# Altium integrated library TI Audio CODEC.IntLib: 199 symbols (part 16 of 17)
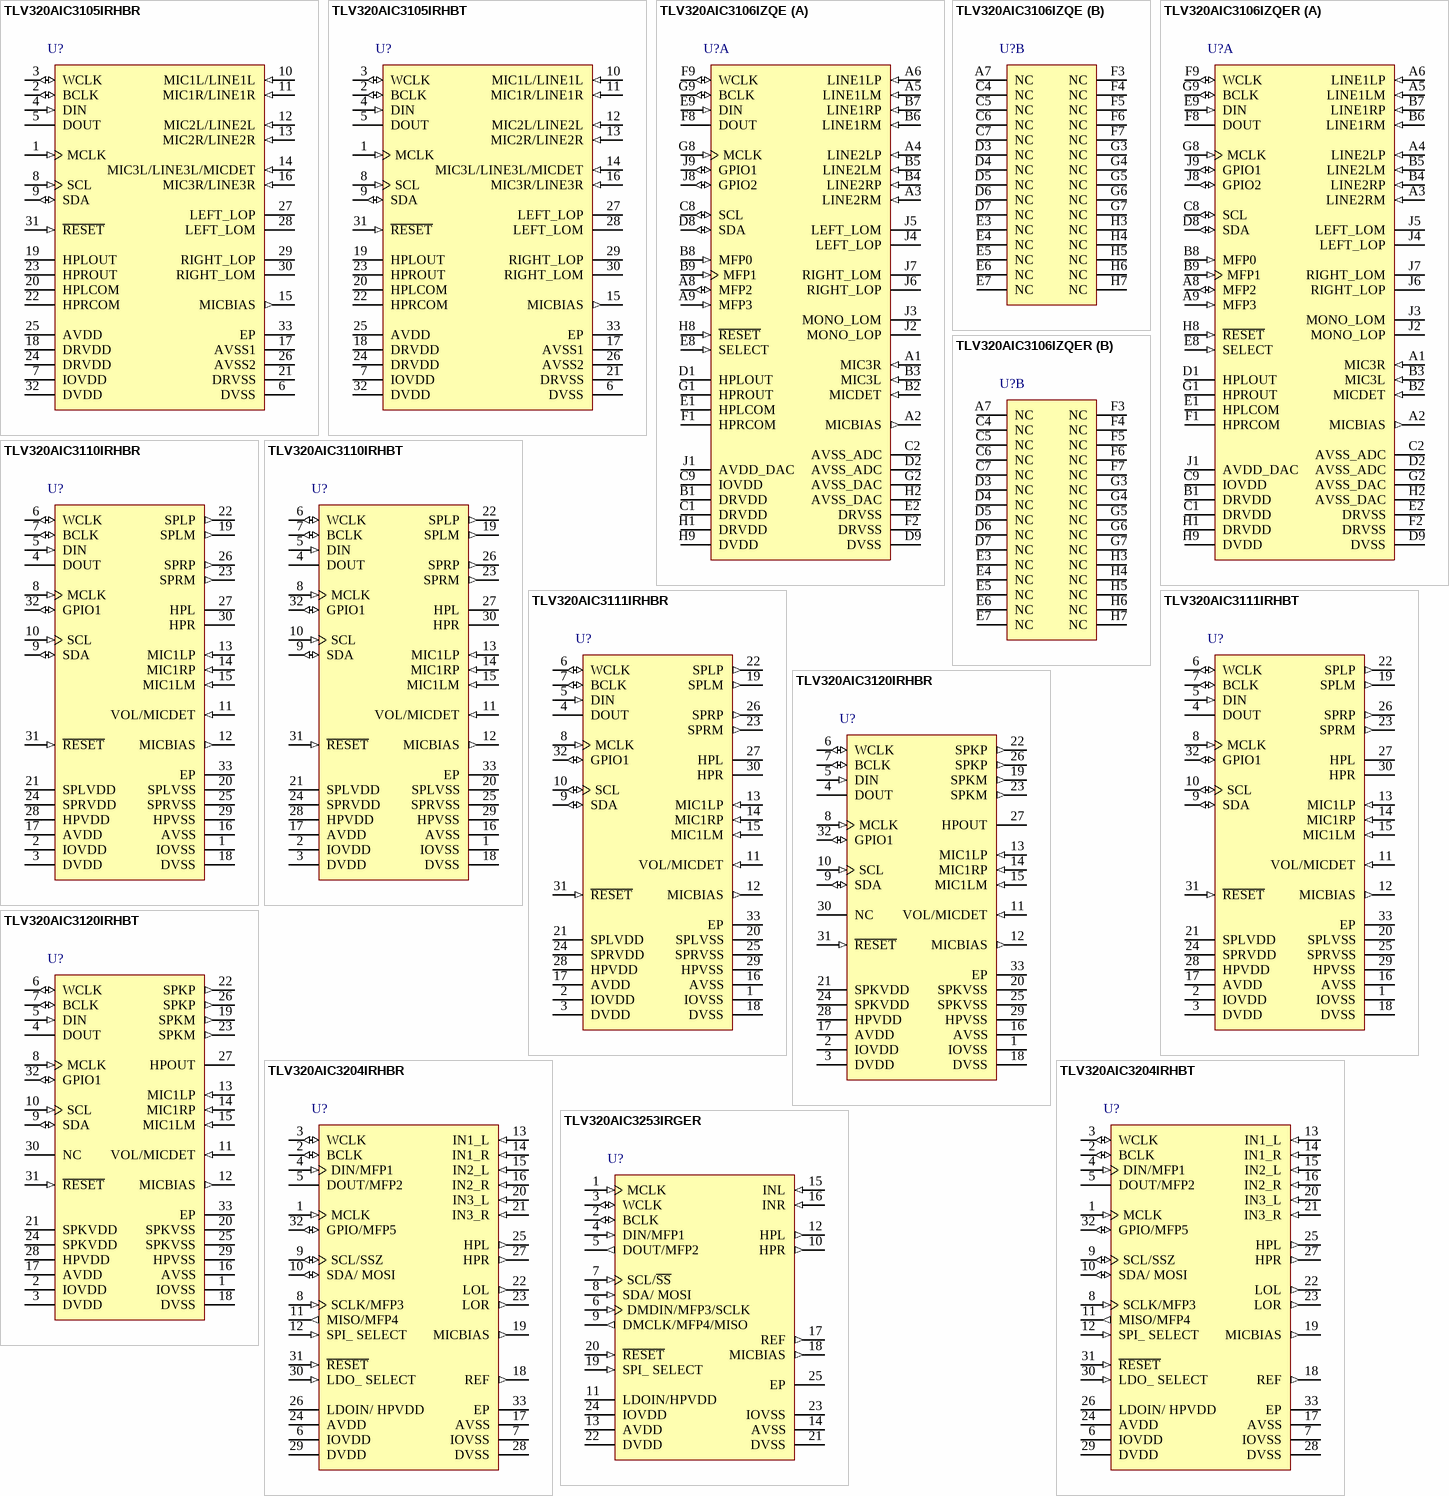
[diagram p28: symbols TLV320AIC3105IRHBR to TLV320AIC3253IRGER]

## TLV320AIC3106IZQER
designator U?
Low-Power Stereo CODEC with 10 Inputs, 7 Outputs, HP Amplifier and Enhanced Digital Effects, 2 ADCs and 2 DACs, 102 dB DAC SNR, -40 to 85 degC, 80-pin BGA MICROSTAR JUNIOR (ZQE), Green (RoHS & no Sb/Br); Manufacturer: Texas Instruments; PartNumber: TLV320AIC3106IZQER; # ADCs (typ): 2; Additional Features: 3D, EQ, Matrix Mixing, PLL, Alt Audio Int., HS detect; Battery Powered: TRUE; Control Interface: SPI, I2C; DAC SNR: 102; Digital Audio Interfaces: L, R, I2S, DSP, TDM; Sampling Rate (Max) (kHz): 96; DatasheetVersion: SLAS509E; PackageVersion: revF, Jul-2011; PackageReference: ZQE80; PackageDescription: 80-Ball Plastic Ball Grid Array, 5 x 5 mm Body, 0.5 mm Pitch; Supplier 1: Digi-Key; Supplier Part Number 1: 296-21655-2-ND; Supplier 2: Digi-Key; Supplier Part Number 2: 296-21655-1-ND; Supplier 3: Newark; Supplier Part Number 3: 34M0122; Supplier 4: Mouser; Supplier Part Number 4: 595-TLV320A3106IZQER; # DACs: 2; Headphone Driver: TRUE; Mounting Technology: Surface Mount; Code_JEDEC: MO-225; ComponentLink1Description: Datasheet; ComponentLink1URL: http://www.ti.com/general/docs/lit/getliterature.tsp?genericPartNumber=TLV320AIC3106&fileType=pdf
footprint ZQE80 (BGA, 80-Leads, Body 5x5mm, Pitch 0.5mm)
part A pins: A1 MIC3R (in) "MIC3 input (right or multifunction)", A2 MICBIAS (out) "Microphone bias voltage output", A3 LINE2RM (in) "MIC2 or Line2 analog input (right - or multifunction)", A4 LINE2LP (in) "MIC2 or Line2 analog input (left + or multifunction)", A5 LINE1LM (in) "MIC1 or Line1 analog input (left - or multifunction)", A6 LINE1LP (in) "MIC1 or Line1 analog input (left + or multifunction)", A8 MFP2 (io) "Multifunction pin #2 - SPI MISO slave serial data output / GPOI", A9 MFP3 (in) "Multifunction pin #3 - SPI MOSI slave serial data input/GPI/audio serial data bus data input", B1 DRVDD (power) "ADC analog and output driver voltage supply,2.7V-3.6V", B2 MICDET (in) "Microphone detect", B3 MIC3L (in) "MIC3 input (left or multifunction)", B4 LINE2RP (in) "MIC2 or Line2 analog input (right + or multifunction)", B5 LINE2LM (in) "MIC2 or Line2 analog input (left - or multifunction)", B6 LINE1RM (in) "MIC1 or Line1 analog input (right - or multifunction)", B7 LINE1RP (in) "MIC1 or Line1 analog input (right + or multifunction)", B8 MFP0 (in) "Multifunction pin #0-SPI chip select /GPI/I2C address pi #0", B9 MFP1 (in) "Multifunction pin #1 - SPI serial clock / GPI / I2C address pin #1S", C1 DRVDD (power) "ADC analog and output driver voltage supply,2.7V-3.6V", C2 AVSS_ADC (power) "Analog ADC ground supply,0V", C8 SCL (io) "I2C serial clock/GPIO", C9 IOVDD (power) "I/O coltage supply,1.1V-3.6V", D1 HPLOUT (hiz) "High-power output driver (left+)", D2 AVSS_ADC (power) "Analog ADC ground supply,0V", D8 SDA (io) "I2C serial data input/output/GPIO", D9 DVSS (power) "Digital core/I/O ground supply,0V", E1 HPLCOM (hiz) "High-power output driver (left- or multifunction)", E2 DRVSS (power) "Analog output driver ground supply,0V", E8 SELECT (in) "control mode select pin(1=SPI,0=I2C)", E9 DIN (in) "Audio serial data bus input(input)", F1 HPRCOM (hiz) "High-power output driver (right- or multifunctional)", F2 DRVSS (power) "Analog output driver ground supply,0V", F8 DOUT (hiz) "Audio serial data bus data output (output)", F9 WCLK (io) "Audio serial data bus word clock (input/output)", G1 HPROUT (hiz) "High-power output driver (right+)", G2 AVSS_DAC (power) "Analog DAC ground supply,0V", G8 MCLK (in) "Master clock input", G9 BCLK (io) "Audio serial data bus bit clock(input/output)", H1 DRVDD (power) "ADC analog and output driver voltage supply,2.7V-3.6V", H2 AVSS_DAC (power) "Analog DAC ground supply,0V", H8 ~{RESET} (in) "Reset", H9 DVDD (power) "Digital core voltage supply,1.65V-1.95V", J1 AVDD_DAC (power) "Analog DAC voltage supply,2.7V-3.6V", J2 MONO_LOP (hiz) "Mono line output(+)", J3 MONO_LOM (hiz) "Mono line output(-)", J4 LEFT_LOP (hiz) "Left line output (+)", J5 LEFT_LOM (hiz) "Left line output (-)", J6 RIGHT_LOP (hiz) "Right line output(+)", J7 RIGHT_LOM (hiz) "Right line output(-)", J8 GPIO2 (io) "General-purpose input/output #2(input/output)/digital microphone data input/PLL clock input/audio serial data bus bit clock input/output", J9 GPIO1 (io) "General-purpose input/output #1(input/output)/PLL/clock mux output/short circuit interrupt/AGC noise flag/digital microphone clock audio serial data bus word clock input/output"
part B pins: A7 NC "No connect", C4 NC "Do not connect.", C5 NC "Do not connect.", C6 NC "Do not connect.", C7 NC "Do not connect.", D3 NC "Do not connect.", D4 NC "Do not connect.", D5 NC "Do not connect.", D6 NC "Do not connect.", D7 NC "Do not connect.", E3 NC "Do not connect.", E4 NC "Do not connect.", E5 NC "Do not connect.", E6 NC "Do not connect.", E7 NC "Do not connect.", F3 NC "Do not connect.", F4 NC "Do not connect.", F5 NC "Do not connect.", F6 NC "Do not connect.", F7 NC "Do not connect.", G3 NC "Do not connect.", G4 NC "Do not connect.", G5 NC "Do not connect.", G6 NC "Do not connect.", G7 NC "Do not connect.", H3 NC "Do not connect.", H4 NC "Do not connect.", H5 NC "Do not connect.", H6 NC "Do not connect.", H7 NC "Do not connect."

## TLV320AIC3110IRHBR
designator U?
Low-Power Audio CODEC with 1.3 W Stereo Class-D Speaker Amplifier, 1 ADC and 2 DACs, 95 dB DAC SNR, -40 to 85 degC, 32-pin QFN (RHB), Green (RoHS & no Sb/Br); Manufacturer: Texas Instruments; PartNumber: TLV320AIC3110IRHBR; # ADCs (typ): 1; # DACs: 2; Additional Features: PLL, Stereo Class-D Speaker Amplifier, Digital Mic Support; Battery Powered: TRUE; Control Interface: I2C; DAC SNR: 95; Digital Audio Interfaces: L, R, I2S, TDM, DSP; Sampling Rate (Max) (kHz): 192; Speaker Amp Output Power(Max)(W): 1.3; DatasheetVersion: SLAS647B; PackageVersion: revD, Jun-2011; PackageReference: RHB32-3450X3450TP; PackageDescription: 32-Pin Plastic Quad Flat No-Lead, 5 x 5 mm Body, 0.5 mm Pitch, 3.45 x 3.45 mm Exposed Pad; Supplier 1: Digi-Key; Supplier Part Number 1: 296-25584-2-ND; Supplier 2: Digi-Key; Supplier Part Number 2: 296-25584-1-ND; Supplier 3: Digi-Key; Supplier Part Number 3: 296-25584-6-ND; Supplier 4: Newark; Supplier Part Number 4: 64R0672; Supplier 5: Mouser; Supplier Part Number 5: 595-V320AIC3110IRHBR; Headphone Driver: TRUE; Speaker Amp Ouputs: 2; Speaker Amp Type: Class-D; Mounting Technology: Surface Mount; Code_JEDEC: MO-220; ComponentLink1Description: Datasheet; ComponentLink1URL: http://www.ti.com/general/docs/lit/getliterature.tsp?genericPartNumber=TLV320AIC3110&fileType=pdf
footprint RHB32-3450X3450TP (QFN, 32-Leads, Body 5x5mm, Pitch 0.5mm, Thermal Pad 3.45x3.45mm, TI Recommended)
pins: 1 IOVSS (power) "Interface ground", 2 IOVDD (power) "Interface power", 3 DVDD (power) "Digital power - digital core", 4 DOUT (hiz) "Audio serial data output", 5 DIN (in) "Audio serial data input", 6 WCLK (io) "Audio serial word clock", 7 BCLK (io) "Audio serial bit clock", 8 MCLK (in) "External master clock", 9 SDA (io) "I2C control bus data input", 10 SCL (in) "I2C control bus clock input", 11 VOL/MICDET (in) "Volume control or microphone detection", 12 MICBIAS (out) "Micophone bias voltage", 13 MIC1LP (in) "Microphone/line input routed to P input mixer and left output mixer", 14 MIC1RP (in) "Microphone/line input routed to P input mixer and left/right output mixer", 15 MIC1LM (in) "Microphone/line input routed to M or P input mixer", 16 AVSS (power) "Analog ground", 17 AVDD (power) "Analog power supply", 18 DVSS (power) "Digital ground", 19 SPLM (out) "Left-channel class-D speaker-driver inverting output", 20 SPLVSS (power) "Left-channel class-D speaker-driver power supply ground", 21 SPLVDD (power) "Left-channel class-D speaker-driver power supply", 22 SPLP (out) "Left-channel class-D speaker-driver noninverting output", 23 SPRM (out) "Right-channel class-D speaker-driver inverting output", 24 SPRVDD (power) "Right-channel class-D speaker-driver power supply", 25 SPRVSS (power) "Right-channel class-D speaker-driver power-supply ground", 26 SPRP (out) "Right-channel class-D speaker-driver noninverting output", 27 HPL (hiz) "Left-channel headphone/line driver output", 28 HPVDD (power) "Headphone/line driver and PLL power", 29 HPVSS (power) "Headphone/line driver and PLL ground", 30 HPR (hiz) "Right-channel headphone/line driver output", 31 ~{RESET} (in) "Device reset", 32 GPIO1 (io) "General-purpose input/output and multifunction pin", 33 EP "Exposed Thermal Pad"

## TLV320AIC3110IRHBT
designator U?
Low-Power Audio CODEC with 1.3 W Stereo Class-D Speaker Amplifier, 1 ADC and 2 DACs, 95 dB DAC SNR, -40 to 85 degC, 32-pin QFN (RHB), Green (RoHS & no Sb/Br); Manufacturer: Texas Instruments; PartNumber: TLV320AIC3110IRHBT; # ADCs (typ): 1; # DACs: 2; Additional Features: PLL, Stereo Class-D Speaker Amplifier, Digital Mic Support; Battery Powered: TRUE; Control Interface: I2C; DAC SNR: 95; Digital Audio Interfaces: L, R, I2S, TDM, DSP; Sampling Rate (Max) (kHz): 192; Speaker Amp Output Power(Max)(W): 1.3; DatasheetVersion: SLAS647B; PackageVersion: revD, Jun-2011; PackageReference: RHB32-3450X3450TP; PackageDescription: 32-Pin Plastic Quad Flat No-Lead, 5 x 5 mm Body, 0.5 mm Pitch, 3.45 x 3.45 mm Exposed Pad; Supplier 1: Digi-Key; Supplier Part Number 1: TLV320AIC3110IRHBT-ND; Supplier 2: Mouser; Supplier Part Number 2: 595-V320AIC3110IRHBT; Headphone Driver: TRUE; Speaker Amp Ouputs: 2; Speaker Amp Type: Class-D; Mounting Technology: Surface Mount; Code_JEDEC: MO-220; ComponentLink1Description: Datasheet; ComponentLink1URL: http://www.ti.com/general/docs/lit/getliterature.tsp?genericPartNumber=TLV320AIC3110&fileType=pdf
footprint RHB32-3450X3450TP (QFN, 32-Leads, Body 5x5mm, Pitch 0.5mm, Thermal Pad 3.45x3.45mm, TI Recommended)
pins: 1 IOVSS (power) "Interface ground", 2 IOVDD (power) "Interface power", 3 DVDD (power) "Digital power - digital core", 4 DOUT (hiz) "Audio serial data output", 5 DIN (in) "Audio serial data input", 6 WCLK (io) "Audio serial word clock", 7 BCLK (io) "Audio serial bit clock", 8 MCLK (in) "External master clock", 9 SDA (io) "I2C control bus data input", 10 SCL (in) "I2C control bus clock input", 11 VOL/MICDET (in) "Volume control or microphone detection", 12 MICBIAS (out) "Micophone bias voltage", 13 MIC1LP (in) "Microphone/line input routed to P input mixer and left output mixer", 14 MIC1RP (in) "Microphone/line input routed to P input mixer and left/right output mixer", 15 MIC1LM (in) "Microphone/line input routed to M or P input mixer", 16 AVSS (power) "Analog ground", 17 AVDD (power) "Analog power supply", 18 DVSS (power) "Digital ground", 19 SPLM (out) "Left-channel class-D speaker-driver inverting output", 20 SPLVSS (power) "Left-channel class-D speaker-driver power supply ground", 21 SPLVDD (power) "Left-channel class-D speaker-driver power supply", 22 SPLP (out) "Left-channel class-D speaker-driver noninverting output", 23 SPRM (out) "Right-channel class-D speaker-driver inverting output", 24 SPRVDD (power) "Right-channel class-D speaker-driver power supply", 25 SPRVSS (power) "Right-channel class-D speaker-driver power-supply ground", 26 SPRP (out) "Right-channel class-D speaker-driver noninverting output", 27 HPL (hiz) "Left-channel headphone/line driver output", 28 HPVDD (power) "Headphone/line driver and PLL power", 29 HPVSS (power) "Headphone/line driver and PLL ground", 30 HPR (hiz) "Right-channel headphone/line driver output", 31 ~{RESET} (in) "Device reset", 32 GPIO1 (io) "General-purpose input/output and multifunction pin", 33 EP "Exposed Thermal Pad"

## TLV320AIC3111IRHBR
designator U?
Low-Power Audio CODEC with Embedded miniDSP and Stereo Class-D Speaker Amplifier, 1 ADC and 2 DACs, 95 dB DAC SNR, -40 to 85 degC, 32-pin QFN (RHB), Green (RoHS & no Sb/Br); Manufacturer: Texas Instruments; PartNumber: TLV320AIC3111IRHBR; # ADCs (typ): 1; # DACs: 2; Additional Features: miniDSP, PLL, Stereo Class-D Speaker Amplifier, Digital Mic Support; Battery Powered: TRUE; Control Interface: I2C; DAC SNR: 95; Digital Audio Interfaces: L, R, I2S, TDM, DSP; Sampling Rate (Max) (kHz): 192; Speaker Amp Output Power(Max)(W): 1.3; DatasheetVersion: SLAS644D; PackageVersion: revD, Jun-2011; PackageReference: RHB32-3450X3450TP; PackageDescription: 32-Pin Plastic Quad Flat No-Lead, 5 x 5 mm Body, 0.5 mm Pitch, 3.45 x 3.45 mm Exposed Pad; Supplier 1: Digi-Key; Supplier Part Number 1: TLV320AIC3111IRHBR-ND; Supplier 2: Mouser; Supplier Part Number 2: 595-V320AIC3111IRHBR; Headphone Driver: TRUE; Speaker Amp Ouputs: 2; Speaker Amp Type: Class-D; Mounting Technology: Surface Mount; Code_JEDEC: MO-220; ComponentLink1Description: Datasheet; ComponentLink1URL: http://www.ti.com/general/docs/lit/getliterature.tsp?genericPartNumber=TLV320AIC3111&fileType=pdf
footprint RHB32-3450X3450TP (QFN, 32-Leads, Body 5x5mm, Pitch 0.5mm, Thermal Pad 3.45x3.45mm, TI Recommended)
pins: 1 IOVSS (power) "Interface ground", 2 IOVDD (power) "Interface power", 3 DVDD (power) "Digital power - digital core", 4 DOUT (hiz) "Audio serial data output", 5 DIN (in) "Audio serial data input", 6 WCLK (io) "Audio serial word clock", 7 BCLK (io) "Audio serial bit clock", 8 MCLK (in) "External master clock", 9 SDA (io) "I2C control bus data input", 10 SCL (io) "I2C control bus clock input", 11 VOL/MICDET (in) "Volume control or microphone detection", 12 MICBIAS (out) "Micophone bias voltage", 13 MIC1LP (in) "Microphone/line input routed to P input mixer and left output mixer", 14 MIC1RP (in) "Microphone/line input routed to P input mixer and left/right output mixer", 15 MIC1LM (in) "Microphone/line input routed to M or P input mixer", 16 AVSS (power) "Analog ground", 17 AVDD (power) "Analog power supply", 18 DVSS (power) "Digital ground", 19 SPLM (out) "Left-channel class-D speaker-driver inverting output", 20 SPLVSS (power) "Left-channel class-D speaker-driver power supply ground", 21 SPLVDD (power) "Left-channel class-D speaker-driver power supply", 22 SPLP (out) "Left-channel class-D speaker-driver noninverting output", 23 SPRM (out) "Right-channel class-D speaker-driver inverting output", 24 SPRVDD (power) "Right-channel class-D speaker-driver power supply", 25 SPRVSS (power) "Right-channel class-D speaker-driver power-supply ground", 26 SPRP (out) "Right-channel class-D speaker-driver noninverting output", 27 HPL (hiz) "Left-channel headphone/line driver output", 28 HPVDD (power) "Headphone/line driver and PLL power", 29 HPVSS (power) "Headphone/line driver and PLL ground", 30 HPR (hiz) "Right-channel headphone/line driver output", 31 ~{RESET} (in) "Device reset", 32 GPIO1 (io) "General-purpose input/output and multifunction pin", 33 EP "Exposed thermal Pad"

## TLV320AIC3111IRHBT
designator U?
Low-Power Audio CODEC with Embedded miniDSP and Stereo Class-D Speaker Amplifier, 1 ADC and 2 DACs, 95 dB DAC SNR, -40 to 85 degC, 32-pin QFN (RHB), Green (RoHS & no Sb/Br); Manufacturer: Texas Instruments; PartNumber: TLV320AIC3111IRHBT; # ADCs (typ): 1; # DACs: 2; Additional Features: miniDSP, PLL, Stereo Class-D Speaker Amplifier, Digital Mic Support; Battery Powered: TRUE; Control Interface: I2C; DAC SNR: 95; Digital Audio Interfaces: L, R, I2S, TDM, DSP; Sampling Rate (Max) (kHz): 192; Speaker Amp Output Power(Max)(W): 1.3; DatasheetVersion: SLAS644D; PackageVersion: revD, Jun-2011; PackageReference: RHB32-3450X3450TP; PackageDescription: 32-Pin Plastic Quad Flat No-Lead, 5 x 5 mm Body, 0.5 mm Pitch, 3.45 x 3.45 mm Exposed Pad; Supplier 1: Digi-Key; Supplier Part Number 1: 296-25188-2-ND; Supplier 2: Digi-Key; Supplier Part Number 2: 296-25188-1-ND; Supplier 3: Digi-Key; Supplier Part Number 3: 296-25188-6-ND; Supplier 4: Mouser; Supplier Part Number 4: 595-V320AIC3111IRHBT; Headphone Driver: TRUE; Speaker Amp Ouputs: 2; Speaker Amp Type: Class-D; Mounting Technology: Surface Mount; Code_JEDEC: MO-220; ComponentLink1Description: Datasheet; ComponentLink1URL: http://www.ti.com/general/docs/lit/getliterature.tsp?genericPartNumber=TLV320AIC3111&fileType=pdf
footprint RHB32-3450X3450TP (QFN, 32-Leads, Body 5x5mm, Pitch 0.5mm, Thermal Pad 3.45x3.45mm, TI Recommended)
pins: 1 IOVSS (power) "Interface ground", 2 IOVDD (power) "Interface power", 3 DVDD (power) "Digital power - digital core", 4 DOUT (hiz) "Audio serial data output", 5 DIN (in) "Audio serial data input", 6 WCLK (io) "Audio serial word clock", 7 BCLK (io) "Audio serial bit clock", 8 MCLK (in) "External master clock", 9 SDA (io) "I2C control bus data input", 10 SCL (io) "I2C control bus clock input", 11 VOL/MICDET (in) "Volume control or microphone detection", 12 MICBIAS (out) "Micophone bias voltage", 13 MIC1LP (in) "Microphone/line input routed to P input mixer and left output mixer", 14 MIC1RP (in) "Microphone/line input routed to P input mixer and left/right output mixer", 15 MIC1LM (in) "Microphone/line input routed to M or P input mixer", 16 AVSS (power) "Analog ground", 17 AVDD (power) "Analog power supply", 18 DVSS (power) "Digital ground", 19 SPLM (out) "Left-channel class-D speaker-driver inverting output", 20 SPLVSS (power) "Left-channel class-D speaker-driver power supply ground", 21 SPLVDD (power) "Left-channel class-D speaker-driver power supply", 22 SPLP (out) "Left-channel class-D speaker-driver noninverting output", 23 SPRM (out) "Right-channel class-D speaker-driver inverting output", 24 SPRVDD (power) "Right-channel class-D speaker-driver power supply", 25 SPRVSS (power) "Right-channel class-D speaker-driver power-supply ground", 26 SPRP (out) "Right-channel class-D speaker-driver noninverting output", 27 HPL (hiz) "Left-channel headphone/line driver output", 28 HPVDD (power) "Headphone/line driver and PLL power", 29 HPVSS (power) "Headphone/line driver and PLL ground", 30 HPR (hiz) "Right-channel headphone/line driver output", 31 ~{RESET} (in) "Device reset", 32 GPIO1 (io) "General-purpose input/output and multifunction pin", 33 EP "Exposed thermal Pad"

## TLV320AIC3120IRHBR
designator U?
Low-Power Audio CODEC with miniDSP and 2.5-W Mono Class-D Speaker Amplifier, 1 ADC and 1 DAC, 95 dB DAC SNR, -40 to 85 degC, 32-pin QFN (RHB), Green (RoHS & no Sb/Br); Manufacturer: Texas Instruments; PartNumber: TLV320AIC3120IRHBR; # ADCs (typ): 1; Additional Features: miniDSP, PLL, Mono Class-D Speaker Amplifier; Battery Powered: TRUE; Control Interface: I2C; DAC SNR: 95; Digital Audio Interfaces: L, R, I2S, TDM, DSP; Sampling Rate (Max) (kHz): 192; Speaker Amp Output Power(Max)(W): 2.5; DatasheetVersion: SLAS653A; PackageVersion: revD, Jun-2011; PackageReference: RHB32-3450X3450TP; PackageDescription: 32-Pin Plastic Quad Flat No-Lead, 5 x 5 mm Body, 0.5 mm Pitch, 3.45 x 3.45 mm Exposed Pad; Supplier 1: Digi-Key; Supplier Part Number 1: 296-29420-2-ND; Supplier 2: Digi-Key; Supplier Part Number 2: 296-29420-1-ND; Supplier 3: Digi-Key; Supplier Part Number 3: 296-29420-6-ND; Supplier 4: Mouser; Supplier Part Number 4: 595-V320AIC3120IRHBR; # DACs: 1; Headphone Driver: TRUE; Speaker Amp Ouputs: 1; Speaker Amp Type: Class-D; Mounting Technology: Surface Mount; Code_JEDEC: MO-220; ComponentLink1Description: Datasheet; ComponentLink1URL: http://www.ti.com/general/docs/lit/getliterature.tsp?genericPartNumber=TLV320AIC3120&fileType=pdf
footprint RHB32-3450X3450TP (QFN, 32-Leads, Body 5x5mm, Pitch 0.5mm, Thermal Pad 3.45x3.45mm, TI Recommended)
pins: 1 IOVSS (power) "Interface ground", 2 IOVDD (power) "Interface power", 3 DVDD (power) "Digital power - digital core", 4 DOUT (hiz) "Audio serial data output", 5 DIN (in) "Audio serial data input", 6 WCLK (io) "Audio serial word clock", 7 BCLK (io) "Audio serial bit clock", 8 MCLK (in) "External master clock", 9 SDA (io) "I2C control bus data input", 10 SCL (in) "I2C control bus clock input", 11 VOL/MICDET (in) "Volume control or microphone detection", 12 MICBIAS (out) "Micophone bias voltage", 13 MIC1LP (in) "Microphone/line input routed to P input mixer and output mixer", 14 MIC1RP (in) "Microphone/line input routed to P input mixer and output mixer", 15 MIC1LM (in) "Microphone/line input routed to M or P input mixer", 16 AVSS (power) "Analog ground", 17 AVDD (power) "Analog power supply", 18 DVSS (power) "Digital ground", 19 SPKM (out) "Class-D speaker driver inverting output", 20 SPKVSS (power) "Class-D speaker driver power supply ground", 21 SPKVDD (power) "Class-D speaker driver power supply", 22 SPKP (out) "Class-D speaker driver noninverting output", 23 SPKM (out) "Class-D speaker driver inverting output", 24 SPKVDD (power) "Class-D speaker driver power supply", 25 SPKVSS (power) "Class-D speaker driver power supply ground", 26 SPKP (out) "Class-D speaker driver noninverting output", 27 HPOUT (hiz) "Mono headphone/line driver output", 28 HPVDD (power) "Headphone/line driver and PLL power", 29 HPVSS (power) "Headphone/line driver and PLL ground", 30 NC "No connection", 31 ~{RESET} (in) "Device reset", 32 GPIO1 (io) "General-purpose input/output and multifunction pin", 33 EP "Exposed thermal pad"

## TLV320AIC3120IRHBT
designator U?
Low-Power Audio CODEC with miniDSP and 2.5-W Mono Class-D Speaker Amplifier, 1 ADC and 1 DAC, 95 dB DAC SNR, -40 to 85 degC, 32-pin QFN (RHB), Green (RoHS & no Sb/Br); Manufacturer: Texas Instruments; PartNumber: TLV320AIC3120IRHBT; # ADCs (typ): 1; Additional Features: miniDSP, PLL, Mono Class-D Speaker Amplifier; Battery Powered: TRUE; Control Interface: I2C; DAC SNR: 95; Digital Audio Interfaces: L, R, I2S, TDM, DSP; Sampling Rate (Max) (kHz): 192; Speaker Amp Output Power(Max)(W): 2.5; DatasheetVersion: SLAS653A; PackageVersion: revD, Jun-2011; PackageReference: RHB32-3450X3450TP; PackageDescription: 32-Pin Plastic Quad Flat No-Lead, 5 x 5 mm Body, 0.5 mm Pitch, 3.45 x 3.45 mm Exposed Pad; Supplier 1: Digi-Key; Supplier Part Number 1: 296-25815-2-ND; Supplier 2: Digi-Key; Supplier Part Number 2: 296-25815-1-ND; Supplier 3: Digi-Key; Supplier Part Number 3: 296-25815-6-ND; Supplier 4: Newark; Supplier Part Number 4: 69R0416; Supplier 5: Mouser; Supplier Part Number 5: 595-V320AIC3120IRHBT; # DACs: 1; Headphone Driver: TRUE; Speaker Amp Ouputs: 1; Speaker Amp Type: Class-D; Mounting Technology: Surface Mount; Code_JEDEC: MO-220; ComponentLink1Description: Datasheet; ComponentLink1URL: http://www.ti.com/general/docs/lit/getliterature.tsp?genericPartNumber=TLV320AIC3120&fileType=pdf
footprint RHB32-3450X3450TP (QFN, 32-Leads, Body 5x5mm, Pitch 0.5mm, Thermal Pad 3.45x3.45mm, TI Recommended)
pins: 1 IOVSS (power) "Interface ground", 2 IOVDD (power) "Interface power", 3 DVDD (power) "Digital power - digital core", 4 DOUT (hiz) "Audio serial data output", 5 DIN (in) "Audio serial data input", 6 WCLK (io) "Audio serial word clock", 7 BCLK (io) "Audio serial bit clock", 8 MCLK (in) "External master clock", 9 SDA (io) "I2C control bus data input", 10 SCL (in) "I2C control bus clock input", 11 VOL/MICDET (in) "Volume control or microphone detection", 12 MICBIAS (out) "Micophone bias voltage", 13 MIC1LP (in) "Microphone/line input routed to P input mixer and output mixer", 14 MIC1RP (in) "Microphone/line input routed to P input mixer and output mixer", 15 MIC1LM (in) "Microphone/line input routed to M or P input mixer", 16 AVSS (power) "Analog ground", 17 AVDD (power) "Analog power supply", 18 DVSS (power) "Digital ground", 19 SPKM (out) "Class-D speaker driver inverting output", 20 SPKVSS (power) "Class-D speaker driver power supply ground", 21 SPKVDD (power) "Class-D speaker driver power supply", 22 SPKP (out) "Class-D speaker driver noninverting output", 23 SPKM (out) "Class-D speaker driver inverting output", 24 SPKVDD (power) "Class-D speaker driver power supply", 25 SPKVSS (power) "Class-D speaker driver power supply ground", 26 SPKP (out) "Class-D speaker driver noninverting output", 27 HPOUT (hiz) "Mono headphone/line driver output", 28 HPVDD (power) "Headphone/line driver and PLL power", 29 HPVSS (power) "Headphone/line driver and PLL ground", 30 NC "No connection", 31 ~{RESET} (in) "Device reset", 32 GPIO1 (io) "General-purpose input/output and multifunction pin", 33 EP "Exposed thermal pad"

## TLV320AIC3204IRHBR
designator U?
Very Low-Power Stereo Audio CODEC with Power Tune™ Technology, 2 ADCs and 2 DACs, 100 dB DAC SNR, -40 to 85 degC, 32-pin QFN (RHB), Green (RoHS & no Sb/Br); Manufacturer: Texas Instruments; PartNumber: TLV320AIC3204IRHBR; # ADCs (typ): 2; Additional Features: PowerTune (tm), Processing blocks for digital audio effects, LP Bypass, PLL, Digital Mic Support, LDO; Battery Powered: TRUE; Control Interface: SPI, I2C; DAC SNR: 100; Digital Audio Interfaces: L, R, I2S, TDM, DSP; Sampling Rate (Max) (kHz): 192; DatasheetVersion: SLOS602A; PackageVersion: revD, Jun-2011; PackageReference: RHB32-3450X3450TP; PackageDescription: 32-Pin Plastic Quad Flat No-Lead, 5 x 5 mm Body, 0.5 mm Pitch, 3.45 x 3.45 mm Exposed Pad; Supplier 1: Digi-Key; Supplier Part Number 1: 296-23775-2-ND; Supplier 2: Digi-Key; Supplier Part Number 2: 296-23775-1-ND; Supplier 3: Digi-Key; Supplier Part Number 3: 296-23775-6-ND; Supplier 4: Farnell; Supplier Part Number 4: 1682562; Supplier 5: Newark; Supplier Part Number 5: 09P8706; Supplier 6: Mouser; Supplier Part Number 6: 595-V320AIC3204IRHBR; # DACs: 2; Mounting Technology: Surface Mount; Code_JEDEC: MO-220; ComponentLink1Description: Datasheet; ComponentLink1URL: http://www.ti.com/general/docs/lit/getliterature.tsp?genericPartNumber=TLV320AIC3204&fileType=pdf
footprint RHB32-3450X3450TP (QFN, 32-Leads, Body 5x5mm, Pitch 0.5mm, Thermal Pad 3.45x3.45mm, TI Recommended)
pins: 1 MCLK (in) "Master Clock Input", 2 BCLK (io) "Audio serial data bus (primary) bit clock", 3 WCLK (io) "Audio serial data bus (primary) word clock", 4 DIN/MFP1 (in) "Primary function:Audio serial data bus data input;Secondary function:Audio serial data bus (secondary) bit clock input,Audio serial data bus (secondary) word clock input,Digital Microphone Input,Clock Input,General Purpose (See Datasheet)", 5 DOUT/MFP2 (hiz) "Primary:Audio serial data bus data output;Secondary:General Purpose Output,Clock Output,INT1 Output,INT2 Output,Audio serial data bus (secondary) bit clock output,Audio serial data bus (secondary) word clock output", 6 IOVDD (power) "I/O voltage supply 1.1V - 3.6V", 7 IOVSS (power) "I/O ground supply", 8 SCLK/MFP3 (in) "Primary (SPI_Select = 1):SPI serial clock;Secondary: (SPI_Select = 0):Headset-detect input,Digital microphone input,Audio serial data bus (secondary) bit clock input,Audio serial data bus (secondary) DAC/common word clock (See Datasheet)", 9 SCL/SSZ (io) "I2C interface serial clock (SPI_Select = 0);SPI interface mode chip-select signal (SPI_Select = 1)", 10 SDA/ MOSI (io) "I2C interface mode serial data input (SPI_Select = 0);SPI interface mode serial data input (SPI_Select = 1)", 11 MISO/MFP4 (out) "Primary (SPI_Select = 1):Serial data output;Secondary (SPI_Select = 0):General purpose output,CLKOUT output,INT1 output,INT2 output,Audio serial data bus (primary) ADC word clock output,Digital microphone clock output,Audio (See Datasheet)", 12 SPI_ SELECT (in) "Control mode select pin ( 1 = SPI, 0 = I2C )", 13 IN1_L (in) "Multifunction Analog Input,or Single-ended configuration: MIC 1 or Line 1 left or Differential configuration: MIC or Line right, negative", 14 IN1_R (in) "Multifunction Analog Input,or Single-ended configuration: MIC 1 or Line 1 right or Differential configuration: MIC or Line right, positive", 15 IN2_L (in) "Multifunction Analog Input,or Single-ended configuration: MIC 2 or Line 2 right or Differential configuration: MIC or Line left, positive", 16 IN2_R (in) "Multifunction Analog Input,or Single-ended configuration: MIC 2 or Line 2 right or Differential configuration: MIC or Line left,negtive", 17 AVSS (power) "Analog ground supply", 18 REF (out) "Reference voltage output for filtering", 19 MICBIAS (out) "Microphone bias voltage output", 20 IN3_L (in) "Multifunction Analog Input,or Single-ended configuration: MIC 3 or Line 3 left or Differential configuration: MIC or Line left,positive,or Differential configuration: MIC or Line right, negative", 21 IN3_R (in) "Multifunction Analog Input,or Single-ended configuration: MIC 3 or Line 3 right or Differential configuration: MIC or Line left,negative,or Differential configuration: MIC or Line right,positive", 22 LOL (out) "Left line output", 23 LOR (out) "Right line output", 24 AVDD (power) "Analog voltage supply 1.5V-1.95V,Input when A-LDO disabled,,Filtering output when A-LDO enabled", 25 HPL (out) "Left high power output driver", 26 LDOIN/ HPVDD (power) "LDO Input supply and Headphone Power supply 1.9V- 3.6V", 27 HPR (out) "Right high power output driver", 28 DVSS (power) "Digital Ground and Chip-substrate", 29 DVDD (power) "If LDO_SELECT Pin = 0 (D-LDO disabled),Digital voltage supply 1.26V - 1.95V;If LDO_SELECT Pin = 1 (D-LDO enabled),Digital voltage supply filtering output", 30 LDO_ SELECT (in) "connect to DVss.", 31 ~{RESET} (in) "Reset (active low)", 32 GPIO/MFP5 (io) "Primary:General Purpose digital IO;Secondary:CLKOUT Output,INT1 Output,INT2 Output,Audio serial data bus ADC word clock output,Audio serial data bus (secondary) bit clock output,Audio serial data bus (secondary) word clock (See Datasheet)", 33 EP "Exposed Thermal Pad"

## TLV320AIC3204IRHBT
designator U?
Very Low-Power Stereo Audio CODEC with Power Tune™ Technology, 2 ADCs and 2 DACs, 100 dB DAC SNR, -40 to 85 degC, 32-pin QFN (RHB), Green (RoHS & no Sb/Br); Manufacturer: Texas Instruments; PartNumber: TLV320AIC3204IRHBT; # ADCs (typ): 2; Additional Features: PowerTune (tm), Processing blocks for digital audio effects, LP Bypass, PLL, Digital Mic Support, LDO; Battery Powered: TRUE; Control Interface: SPI, I2C; DAC SNR: 100; Digital Audio Interfaces: L, R, I2S, TDM, DSP; Sampling Rate (Max) (kHz): 192; DatasheetVersion: SLOS602A; PackageVersion: revD, Jun-2011; PackageReference: RHB32-3450X3450TP; PackageDescription: 32-Pin Plastic Quad Flat No-Lead, 5 x 5 mm Body, 0.5 mm Pitch, 3.45 x 3.45 mm Exposed Pad; Supplier 1: Digi-Key; Supplier Part Number 1: 296-32391-2-ND; Supplier 2: Digi-Key; Supplier Part Number 2: 296-32391-1-ND; Supplier 3: Digi-Key; Supplier Part Number 3: 296-32391-6-ND; Supplier 4: Farnell; Supplier Part Number 4: 1689424; Supplier 5: Newark; Supplier Part Number 5: 45P4088; Supplier 6: Newark; Supplier Part Number 6: 12P7894; Supplier 7: Mouser; Supplier Part Number 7: 595-V320AIC3204IRHBT; # DACs: 2; Mounting Technology: Surface Mount; Code_JEDEC: MO-220; ComponentLink1Description: Datasheet; ComponentLink1URL: http://www.ti.com/general/docs/lit/getliterature.tsp?genericPartNumber=TLV320AIC3204&fileType=pdf
footprint RHB32-3450X3450TP (QFN, 32-Leads, Body 5x5mm, Pitch 0.5mm, Thermal Pad 3.45x3.45mm, TI Recommended)
pins: 1 MCLK (in) "Master Clock Input", 2 BCLK (io) "Audio serial data bus (primary) bit clock", 3 WCLK (io) "Audio serial data bus (primary) word clock", 4 DIN/MFP1 (in) "Primary function:Audio serial data bus data input;Secondary function:Audio serial data bus (secondary) bit clock input,Audio serial data bus (secondary) word clock input,Digital Microphone Input,Clock Input,General Purpose (See Datasheet)", 5 DOUT/MFP2 (hiz) "Primary:Audio serial data bus data output;Secondary:General Purpose Output,Clock Output,INT1 Output,INT2 Output,Audio serial data bus (secondary) bit clock output,Audio serial data bus (secondary) word clock output", 6 IOVDD (power) "I/O voltage supply 1.1V - 3.6V", 7 IOVSS (power) "I/O ground supply", 8 SCLK/MFP3 (in) "Primary (SPI_Select = 1):SPI serial clock;Secondary: (SPI_Select = 0):Headset-detect input,Digital microphone input,Audio serial data bus (secondary) bit clock input,Audio serial data bus (secondary) DAC/common word clock (See Datasheet)", 9 SCL/SSZ (io) "I2C interface serial clock (SPI_Select = 0);SPI interface mode chip-select signal (SPI_Select = 1)", 10 SDA/ MOSI (io) "I2C interface mode serial data input (SPI_Select = 0);SPI interface mode serial data input (SPI_Select = 1)", 11 MISO/MFP4 (out) "Primary (SPI_Select = 1):Serial data output;Secondary (SPI_Select = 0):General purpose output,CLKOUT output,INT1 output,INT2 output,Audio serial data bus (primary) ADC word clock output,Digital microphone clock output,Audio (See Datasheet)", 12 SPI_ SELECT (in) "Control mode select pin ( 1 = SPI, 0 = I2C )", 13 IN1_L (in) "Multifunction Analog Input,or Single-ended configuration: MIC 1 or Line 1 left or Differential configuration: MIC or Line right, negative", 14 IN1_R (in) "Multifunction Analog Input,or Single-ended configuration: MIC 1 or Line 1 right or Differential configuration: MIC or Line right, positive", 15 IN2_L (in) "Multifunction Analog Input,or Single-ended configuration: MIC 2 or Line 2 right or Differential configuration: MIC or Line left, positive", 16 IN2_R (in) "Multifunction Analog Input,or Single-ended configuration: MIC 2 or Line 2 right or Differential configuration: MIC or Line left,negtive", 17 AVSS (power) "Analog ground supply", 18 REF (out) "Reference voltage output for filtering", 19 MICBIAS (out) "Microphone bias voltage output", 20 IN3_L (in) "Multifunction Analog Input,or Single-ended configuration: MIC 3 or Line 3 left or Differential configuration: MIC or Line left,positive,or Differential configuration: MIC or Line right, negative", 21 IN3_R (in) "Multifunction Analog Input,or Single-ended configuration: MIC 3 or Line 3 right or Differential configuration: MIC or Line left,negative,or Differential configuration: MIC or Line right,positive", 22 LOL (out) "Left line output", 23 LOR (out) "Right line output", 24 AVDD (power) "Analog voltage supply 1.5V-1.95V,Input when A-LDO disabled,,Filtering output when A-LDO enabled", 25 HPL (out) "Left high power output driver", 26 LDOIN/ HPVDD (power) "LDO Input supply and Headphone Power supply 1.9V- 3.6V", 27 HPR (out) "Right high power output driver", 28 DVSS (power) "Digital Ground and Chip-substrate", 29 DVDD (power) "If LDO_SELECT Pin = 0 (D-LDO disabled),Digital voltage supply 1.26V - 1.95V;If LDO_SELECT Pin = 1 (D-LDO enabled),Digital voltage supply filtering output", 30 LDO_ SELECT (in) "connect to DVss.", 31 ~{RESET} (in) "Reset (active low)", 32 GPIO/MFP5 (io) "Primary:General Purpose digital IO;Secondary:CLKOUT Output,INT1 Output,INT2 Output,Audio serial data bus ADC word clock output,Audio serial data bus (secondary) bit clock output,Audio serial data bus (secondary) word clock (See Datasheet)", 33 EP "Exposed Thermal Pad"

## TLV320AIC3253IRGER
designator U?
Ultra Low Power Stereo Audio CODEC with Embedded miniDSP, 2 DACs, 100 dB DAC SNR, -40 to 85 degC, 24-pin VQFN (RGE), Green (RoHS & no Sb/Br); Manufacturer: Texas Instruments; PartNumber: TLV320AIC3253IRGER; # ADCs (typ): 0; # DACs: 2; Additional Features: miniDSP, PowerTune (tm), LP Bypass, PLL, Digital Mic Support, LDO (for single supply operation); Battery Powered: TRUE; Control Interface: I2C, SPI; DAC SNR: 100; Digital Audio Interfaces: L, R, I2S, TDM, DSP; Sampling Rate (Max) (kHz): 192; DatasheetVersion: SLOS631; PackageVersion: revG, Jul-2011; PackageReference: RGE24-2700X2700TP; PackageDescription: 24-Pin Plastic Quad Flatpack No-Lead, 4 x 4 mm Body, 0.5 mm Pitch; Supplier 1: Digi-Key; Supplier Part Number 1: TLV320AIC3253IRGER-ND; Supplier 2: Mouser; Supplier Part Number 2: 595-V320AIC3253IRGER; Mounting Technology: Surface Mount; Code_JEDEC: MO-220; ComponentLink1Description: Datasheet; ComponentLink1URL: http://www.ti.com/general/docs/lit/getliterature.tsp?genericPartNumber=TLV320AIC3253&fileType=pdf
footprint RGE24-2700X2700TP (QFN, 24-Leads, Body 4x4mm, Pitch 0.5mm, Thermal Pad 2.7x2.7mm, TI Recommended)
pins: 1 MCLK (in) "Master Clock Input", 2 BCLK (io) "Audio serial data bus (primary) bit clock", 3 WCLK (io) "Aduio serial data bus (primary) word clock", 4 DIN/MFP1 (in) "Primary function Audio serial data bus data input  Secondary function Digital Microphone Input General Purpose Input", 5 DOUT/MFP2 (out) "Primary Audio serial data bus data output Secondary General Purpose Output Clock Output INT1 Output INT2 Output Audio serial data bus (secondary) bit clock output Audio serial data bus (secondary) word clock output", 6 DMDIN/MFP3/SCLK (in) "Primary (SPI_Select = 1) SPI serial clock Secondary: (SPI_Select = 0) Digital microphone input Headset detect input Audio serial data bus (secondary) bit clock input  Audio serial data bus (secondary) DAC/common word clock (See Datasheet)", 7 SCL/~{SS} (in) "I2C interface serial clock (SPI_Select = 0) SPI intergace mode chip-select signal (SPI_Select = 1)", 8 SDA/ MOSI (in) "I2C interface mode serial data input (SPI_Select = 0) SPI interface mode serial data input (SPI_Select = 1)", 9 DMCLK/MFP4/MISO (out) "Primary (SPI_Select = 1) Serial data output Secondary (SPI_Select = 0) Multifunction pin #4 (MFP4) options are only available using I2C Digital microphone clock output General purpose output CLKOUT output INT1 output INT2 (See Datasheet)", 10 HPR (out) "Right high-power output driver", 11 LDOIN/HPVDD (power) "LDO Input supply and Headphone Power supply 1.9V- 3.6V", 12 HPL (out) "Left high power output driver", 13 AVDD (power) "Analog voltage supply 1.5V-1.95V Input when A-LDO disabled, Filtering output when A-LDO enabled", 14 AVSS (power) "Analog ground supply", 15 INL (in) "Left Analog Bypass Input", 16 INR (in) "Right Analog Bypass Input", 17 REF (out) "Reference voltage output for filtering", 18 MICBIAS (out) "Microphone bias voltage output", 19 SPI_ SELECT (in) "Control mode select pin ( 1 = SPI, 0 = I2C )", 20 ~{RESET} (in) "Reset (active low)", 21 DVSS (power) "Digital Ground and Chip-substrate", 22 DVDD (power) "Digital voltage supply 1.26V-1.95V", 23 IOVSS (power) "I/O ground supply", 24 IOVDD (power) "I/O voltage supply 1.1V - 3.6V", 25 EP "Exposed Thermal Pad"

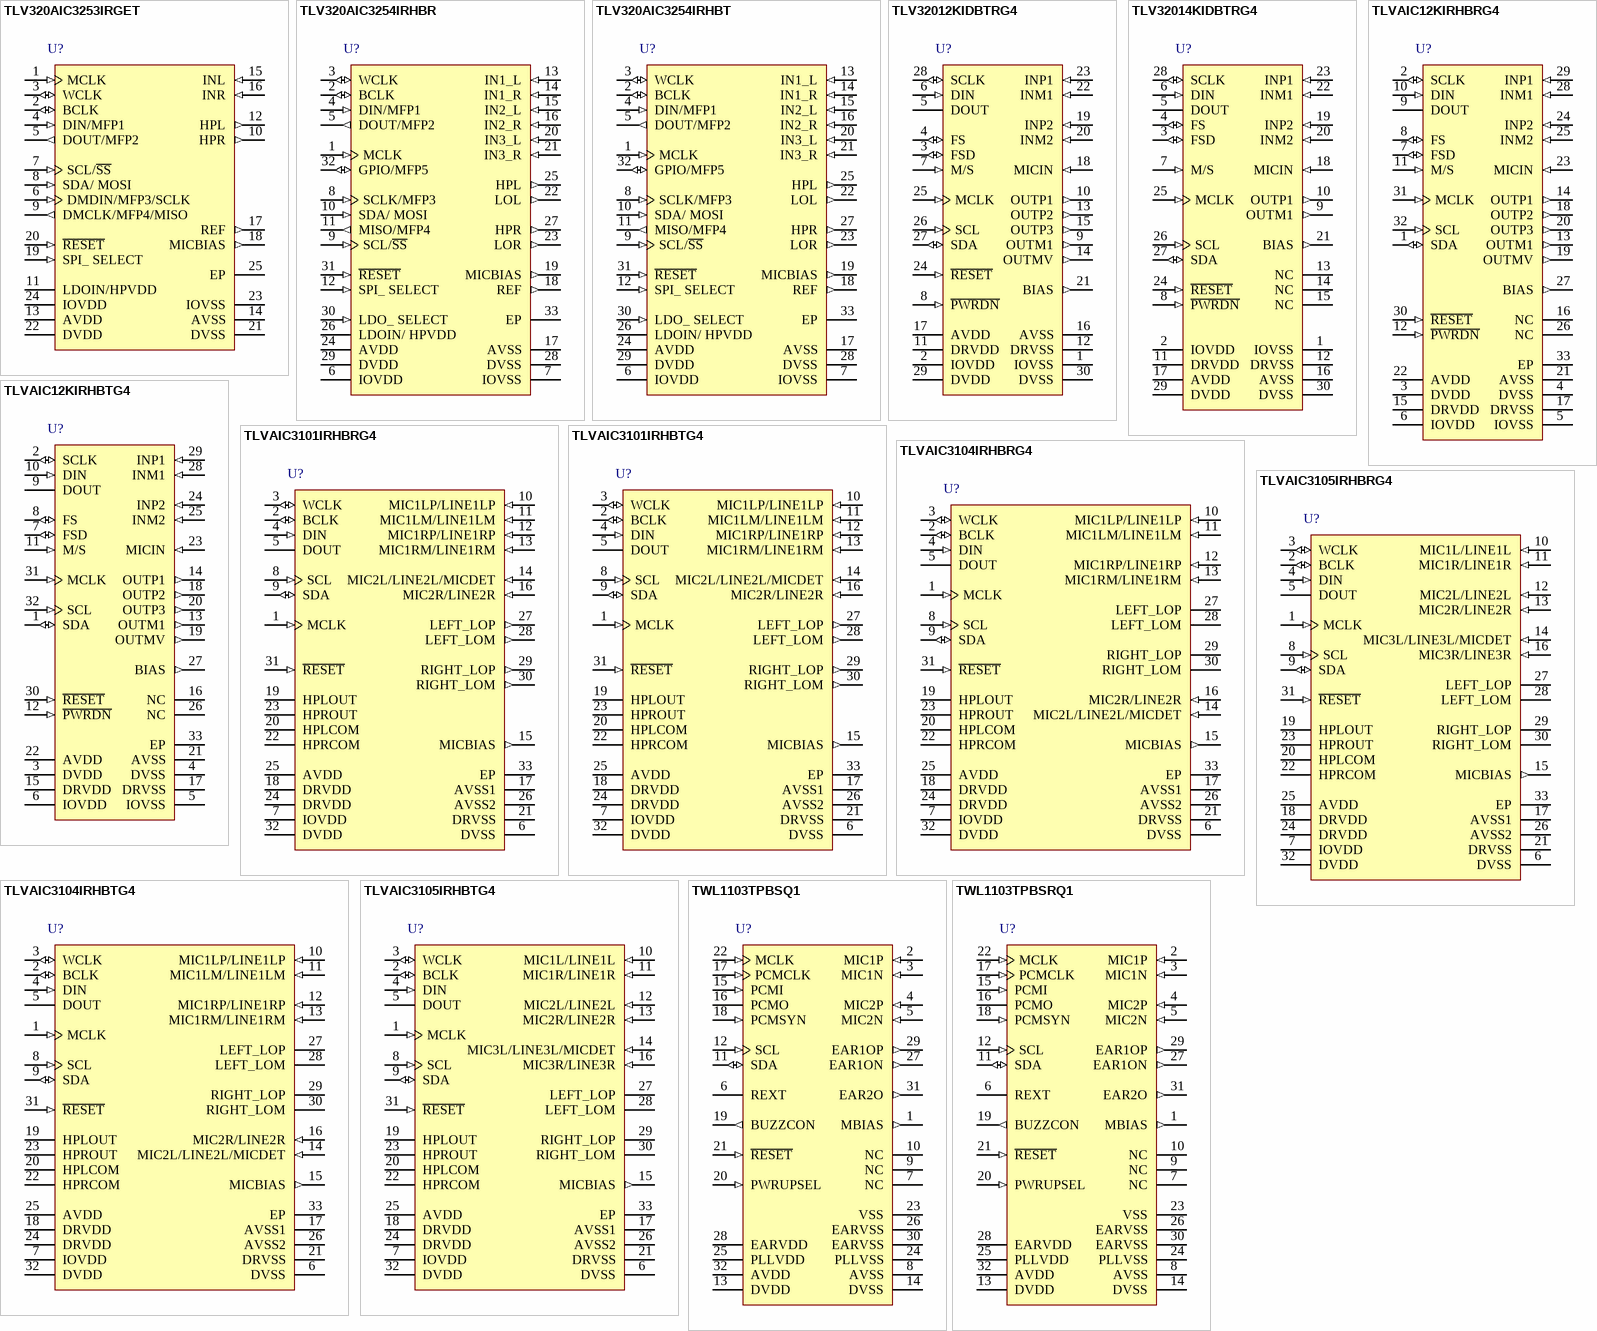
[diagram p13: symbols TLV320AIC3253IRGET to TWL1103TPBSRQ1]

## TLV320AIC3253IRGET
designator U?
Ultra Low Power Stereo Audio CODEC with Embedded MiniDSP, 2 DACs, 100 dB DAC SNR, -40 to 85 degC, 24-pin VQFN (RGE), Green (RoHS & no Sb/Br); Manufacturer: Texas Instruments; PartNumber: TLV320AIC3253IRGET; # ADCs (typ): 0; # DACs: 2; Additional Features: miniDSP, PowerTune (tm), LP Bypass, PLL, Digital Mic Support, LDO (for single supply operation); Battery Powered: TRUE; Control Interface: I2C, SPI; DAC SNR: 100; Digital Audio Interfaces: L, R, I2S, TDM, DSP; Sampling Rate (Max) (kHz): 192; DatasheetVersion: SLOS631; PackageVersion: revG, Jul-2011; PackageReference: RGE24-2700X2700TP; PackageDescription: 24-Pin Plastic Quad Flatpack No-Lead, 4 x 4 mm Body, 0.5 mm Pitch; Supplier 1: Digi-Key; Supplier Part Number 1: 296-27235-2-ND; Supplier 2: Digi-Key; Supplier Part Number 2: 296-27235-1-ND; Supplier 3: Digi-Key; Supplier Part Number 3: 296-27235-6-ND; Supplier 4: Farnell; Supplier Part Number 4: 1815783; Supplier 5: Newark; Supplier Part Number 5: 72R6845; Supplier 6: Mouser; Supplier Part Number 6: 595-V320AIC3253IRGET; Mounting Technology: Surface Mount; Code_JEDEC: MO-220; ComponentLink1Description: Datasheet; ComponentLink1URL: http://www.ti.com/general/docs/lit/getliterature.tsp?genericPartNumber=TLV320AIC3253&fileType=pdf
footprint RGE24-2700X2700TP (QFN, 24-Leads, Body 4x4mm, Pitch 0.5mm, Thermal Pad 2.7x2.7mm, TI Recommended)
pins: 1 MCLK (in) "Master Clock Input", 2 BCLK (io) "Audio serial data bus (primary) bit clock", 3 WCLK (io) "Aduio serial data bus (primary) word clock", 4 DIN/MFP1 (in) "Primary function Audio serial data bus data input  Secondary function Digital Microphone Input General Purpose Input", 5 DOUT/MFP2 (out) "Primary Audio serial data bus data output Secondary General Purpose Output Clock Output INT1 Output INT2 Output Audio serial data bus (secondary) bit clock output Audio serial data bus (secondary) word clock output", 6 DMDIN/MFP3/SCLK (in) "Primary (SPI_Select = 1) SPI serial clock Secondary: (SPI_Select = 0) Digital microphone input Headset detect input Audio serial data bus (secondary) bit clock input  Audio serial data bus (secondary) DAC/common word clock (See Datasheet)", 7 SCL/~{SS} (in) "I2C interface serial clock (SPI_Select = 0) SPI intergace mode chip-select signal (SPI_Select = 1)", 8 SDA/ MOSI (in) "I2C interface mode serial data input (SPI_Select = 0) SPI interface mode serial data input (SPI_Select = 1)", 9 DMCLK/MFP4/MISO (out) "Primary (SPI_Select = 1) Serial data output Secondary (SPI_Select = 0) Multifunction pin #4 (MFP4) options are only available using I2C Digital microphone clock output General purpose output CLKOUT output INT1 output INT2 (See Datasheet)", 10 HPR (out) "Right high-power output driver", 11 LDOIN/HPVDD (power) "LDO Input supply and Headphone Power supply 1.9V- 3.6V", 12 HPL (out) "Left high power output driver", 13 AVDD (power) "Analog voltage supply 1.5V-1.95V Input when A-LDO disabled, Filtering output when A-LDO enabled", 14 AVSS (power) "Analog ground supply", 15 INL (in) "Left Analog Bypass Input", 16 INR (in) "Right Analog Bypass Input", 17 REF (out) "Reference voltage output for filtering", 18 MICBIAS (out) "Microphone bias voltage output", 19 SPI_ SELECT (in) "Control mode select pin ( 1 = SPI, 0 = I2C )", 20 ~{RESET} (in) "Reset (active low)", 21 DVSS (power) "Digital Ground and Chip-substrate", 22 DVDD (power) "Digital voltage supply 1.26V-1.95V", 23 IOVSS (power) "I/O ground supply", 24 IOVDD (power) "I/O voltage supply 1.1V - 3.6V", 25 EP "Exposed Thermal Pad"

## TLV320AIC3254IRHBR
designator U?
Very Low-Power Stereo Audio CODEC with miniDSP and Power TuneTM Technology, 2 ADCs and 2 DACs, 100 dB DAC SNR, -40 to 85 degC, 32-pin QFN (RHB), Green (RoHS & no Sb/Br); Manufacturer: Texas Instruments; PartNumber: TLV320AIC3254IRHBR; # ADCs (typ): 2; Additional Features: MiniDSP, PowerTune (tm), LP Bypass, PLL, Digital Mic Support, LDO (for single supply operation up to 3.6V); Battery Powered: TRUE; Control Interface: SPI, I2C; DAC SNR: 100; Digital Audio Interfaces: L, R, I2S, TDM, DSP; Sampling Rate (Max) (kHz): 192; DatasheetVersion: SLAS549B; PackageVersion: revD, Jun-2011; PackageReference: RHB32-3450X3450TP; PackageDescription: 32-Pin Plastic Quad Flat No-Lead, 5 x 5 mm Body, 0.5 mm Pitch, 3.45 x 3.45 mm Exposed Pad; Supplier 1: Digi-Key; Supplier Part Number 1: 296-23776-2-ND; Supplier 2: Digi-Key; Supplier Part Number 2: 296-23776-1-ND; Supplier 3: Digi-Key; Supplier Part Number 3: 296-23776-6-ND; Supplier 4: Farnell; Supplier Part Number 4: 1686286; Supplier 5: Newark; Supplier Part Number 5: 12P6263; Supplier 6: Mouser; Supplier Part Number 6: 595-V320AIC3254IRHBR; # DACs: 2; Headphone Driver: TRUE; Mounting Technology: Surface Mount; Code_JEDEC: MO-220; ComponentLink1Description: Datasheet; ComponentLink1URL: http://www.ti.com/general/docs/lit/getliterature.tsp?genericPartNumber=TLV320AIC3254&fileType=pdf
footprint RHB32-3450X3450TP (QFN, 32-Leads, Body 5x5mm, Pitch 0.5mm, Thermal Pad 3.45x3.45mm, TI Recommended)
pins: 1 MCLK (in) "Master Clock Input", 2 BCLK (io) "Audio serial data bus (primary) bit clock", 3 WCLK (io) "Audio serial data bus (primary) word clock", 4 DIN/MFP1 (in) "Primary function: Audio serial data bus data input. Secondary function:Audio serial data bus (secondary) bit clock input;Audio serial data bus (secondary) word clock input; Digital Microphone Input; Clock Input; General (See Datasheet)", 5 DOUT/MFP2 (out) "Primary: Audio serial data bus data output. Secondary: General Purpose Output; Clock Output; INT1 Output; INT2 Output; Audio serial data bus (secondary) bit clock output; Audio serial data bus (secondary) word clock output.", 6 IOVDD (power) "I/O voltage supply 1.1V - 3.6V", 7 IOVSS (power) "I/O ground supply", 8 SCLK/MFP3 (in) "Primary (SPI_Select = 1): SPI serial clock. Secondary(SPI_Select = 0): Headset-detect input; Digital microphone input; Audio serial data bus (secondary) bit clock input ;Audio serial data bus (secondary) DAC/common word (See Datasheet)", 9 SCL/~{SS} (in) "I2C interface serial clock (SPI_Select = 0);SPI interface mode chip-select signal (SPI_Select = 1)", 10 SDA/ MOSI (in) "I2C interface mode serial data input (SPI_Select = 0); SPI interface mode serial data input (SPI_Select = 1)", 11 MISO/MFP4 (out) "Primary (SPI_Select = 1): Serial data output.Secondary (SPI_Select = 0): General purpose output; CLKOUT output; INT1 output ;INT2 output; Audio serial data bus (primary) ADC word clock output ;Digital microphone clock output (See Datasheet)", 12 SPI_ SELECT (in) "Control mode select pin ( 1 = SPI, 0 = I2C )", 13 IN1_L (in) "Multifunction Analog Input, or Single-ended configuration: MIC 1 or Line 1 left or Differential configuration: MIC or Line right, negative", 14 IN1_R (in) "Multifunction Analog Input, or Single-ended configuration: MIC 1 or Line 1 right or Differential configuration: MIC or Line right, positive", 15 IN2_L (in) "Multifunction Analog Input, or Single-ended configuration: MIC 2 or Line 2 right or Differential configuration: MIC or Line left, positive", 16 IN2_R (in) "Multifunction Analog Input, or Single-ended configuration: MIC 2 or Line 2 right or Differential configuration: MIC or Line left, negative", 17 AVSS (power) "Analog ground supply", 18 REF (out) "Reference voltage output for filtering", 19 MICBIAS (out) "Microphone bias voltage output", 20 IN3_L (in) "Multifunction Analog Input, or Single-ended configuration: MIC3 or Line 3 left, or Differential configuration: MIC or Line left, positive, or Differential configuration: MIC or Line right, negative", 21 IN3_R (in) "Multifunction Analog Input, or Single-ended configuration: MIC3 or Line 3 right, or Differential configuration: MIC or Line left, negative, or Differential configuration: MIC or Line right, positive", 22 LOL (out) "Left line output", 23 LOR (out) "Right line output", 24 AVDD (power) "Analog voltage supply 1.5V-1.95V Input when A-LDO disabled, Filtering output when A-LDO enabled", 25 HPL (out) "Left high power output driver", 26 LDOIN/ HPVDD (power) "LDO Input supply and Headphone Power supply 1.9V- 3.6V", 27 HPR (out) "Right high power output driver", 28 DVSS (power) "Digital Ground and Chip-substrate", 29 DVDD (power) "If LDO_SELECT Pin = 0 (D-LDO disabled) Digital voltage supply 1.26V - 1.95V, If LDO_SELECT Pin = 1 (D-LDO enabled) Digital voltage supply filtering output", 30 LDO_ SELECT (in) "connect to DVss", 31 ~{RESET} (in) "Reset (active low)", 32 GPIO/MFP5 (io) "Primary: General Purpose digital IO.Secondary: CLKOUT Output; INT1 Output; INT2 Output; Audio serial data bus ADC word clock output ;Audio serial data bus (secondary) bit clock output ;Audio serial data bus (secondary) word (See Datasheet)", 33 EP "Exposed Thermal Pad"